# Altium schematic symbol library TP5532-FR.SchLib: 1 symbol
Pins are listed as number, name and electrical type; pins without a type are passive.

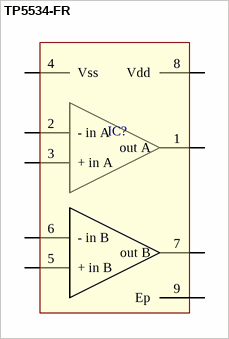
[diagram p0: symbol TP5534-FR]

## TP5534-FR
designator IC?  (value not drawn)
dual channel operational amplifier
footprint DFN8
pins: 1 out A, 2 - in A, 3 + in A, 4 Vss, 5 + in B, 6 - in B, 7 out B, 8 Vdd, 9 Ep